# Altium footprint library J30J-15ZKW.PcbLib: 1 footprints
Each footprint in its own frame and in the unit in brackets; x right, y up, seen from the top. Pads: shape width x height; smd on the part's side, far side on the other; paste and mask are expansions set on the pad; w line width, h text height; cw(c..) or ccw(c..) is an arc to the next point about the centre after c.
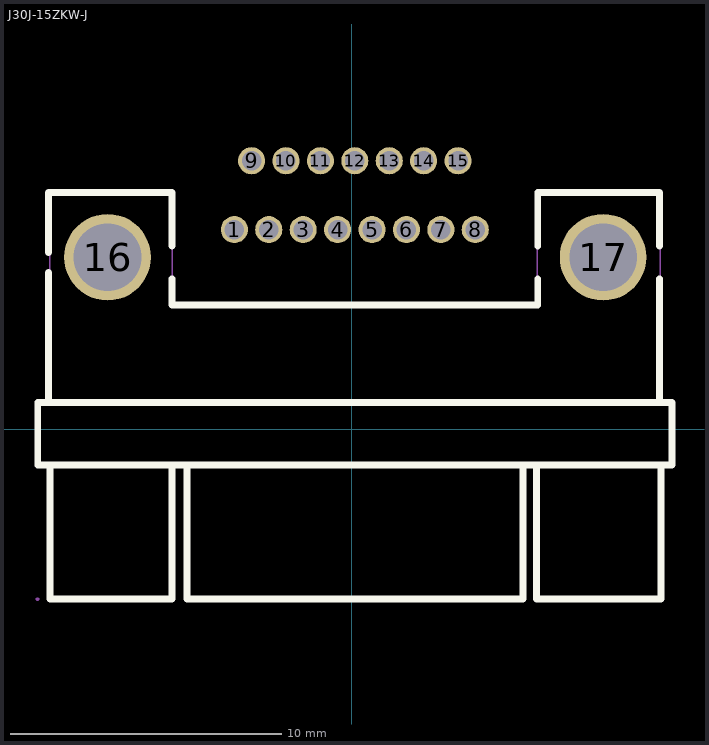
[diagram p0: the footprint, top view; thin cyan lines are the x and y axes]

## J30J-15ZKW-J [mm]
pads (17):
  round 1 hole 0.72 paste+0 mask+0.05: 1(-4.338,7.37) 2(-3.068,7.37) 3(-1.798,7.37) 4(-0.528,7.37) 5(0.742,7.37) 6(2.012,7.37) 7(3.282,7.37) 8(4.552,7.37) 9(-3.703,9.91) 10(-2.433,9.91) 11(-1.163,9.91) 12(0.107,9.91) 13(1.377,9.91) 14(2.647,9.91) 15(3.917,9.91)
  round 3.2 hole 2.5: 16(-9.017,6.35) 17(9.271,6.35)
Top Overlay:
  lines w0.254: -11.193,0.984 -11.193,5.792 ; -11.193,6.525 -11.193,8.734 -6.643,8.734 -6.643,6.761 ; -6.643,5.556 -6.643,4.584 6.857,4.584 6.857,5.556 ; 6.857,6.761 6.857,8.734 11.357,8.734 11.357,6.761 ; 11.357,5.556 11.357,0.984 ; -11.143,-1.316 11.407,-1.316 ; -11.143,-1.316 -11.593,-1.316 -11.593,0.984 -11.143,0.984 11.357,0.984 ; -11.143,-1.316 -11.143,-6.266 -6.643,-6.266 -6.643,-1.316 -6.093,-1.316 -6.093,-6.266 6.307,-6.266 6.307,-1.316 6.807,-1.316 6.807,-6.266 11.407,-6.266 11.407,-1.316 ; 11.357,0.984 11.807,0.984 11.807,-1.316 11.407,-1.316
Keep-Out Layer:
  board cut-out: -7.843,6.37 -7.843,6.522 -7.921,6.814 -8.073,7.076 -8.287,7.29 -8.549,7.442 -8.841,7.52 -9.144,7.52 -9.437,7.442 -9.699,7.291 -9.913,7.076 -10.064,6.814 -10.143,6.522 -10.143,6.37 -10.143,6.219 -10.064,5.926 -9.913,5.664 -9.699,5.45 -9.437,5.299 -9.144,5.22 -8.841,5.22 -8.549,5.299 -8.287,5.45 -8.073,5.664 -7.921,5.926 -7.843,6.219
  board cut-out: 10.357,6.37 10.357,6.522 10.279,6.814 10.127,7.076 9.913,7.29 9.651,7.442 9.359,7.52 9.056,7.52 8.763,7.442 8.501,7.291 8.287,7.076 8.135,6.814 8.057,6.522 8.057,6.37 8.057,6.219 8.135,5.926 8.287,5.664 8.501,5.45 8.763,5.299 9.056,5.22 9.358,5.22 9.651,5.299 9.913,5.45 10.127,5.664 10.279,5.926 10.357,6.219
Mechanical 15:
  drawing of 40 lines, arcs and shapes, not listed
3D body "User Library-J30J-15ZKNP5.STEP": height 7.8, standoff 0.2, extent -12.004,-6.223 11.496,4.677